# EAGLE library part MOLEX-548190519-MICROUSB (library Ava)
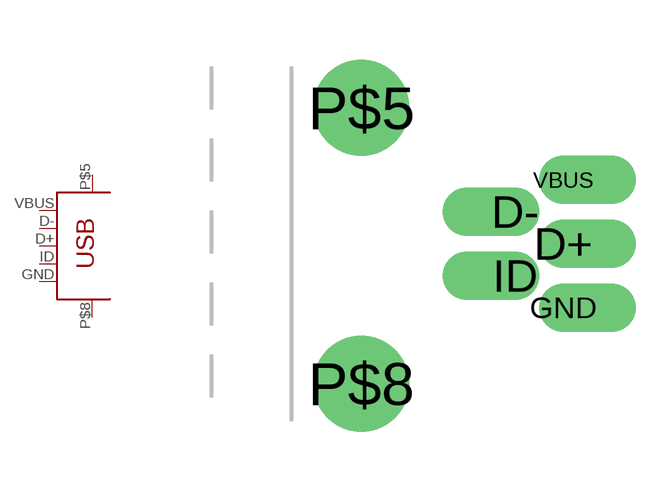
[diagram p58: symbol with the pads of MOLEX-548190519; footprint MOLEX-548190519]

Designator prefix -

## MOLEX-548190519-MICROUSB  [MOLEX-548190519]
D+  D+
D-  D-
GND  GND
ID  ID
P$5  MTN2
P$8  MTN4
VBUS  VBUS

## Footprint MOLEX-548190519 (pad centres in mm)
drill 0.7 pad 0.9 offset: D+ 0,0; D- -1.2,0.8; GND 0,-1.6; ID -1.2,-0.8; VBUS 0,1.6
drill 1.6: P$5 -5.05,3.4; P$8 -5.05,-3.5